# Altium footprint library BGA-24 (8x6).PcbLib: 1 footprints
Each footprint in its own frame and in the unit in brackets; x right, y up, seen from the top. Pads: shape width x height; smd on the part's side, far side on the other; paste and mask are expansions set on the pad; w line width, h text height; cw(c..) or ccw(c..) is an arc to the next point about the centre after c.
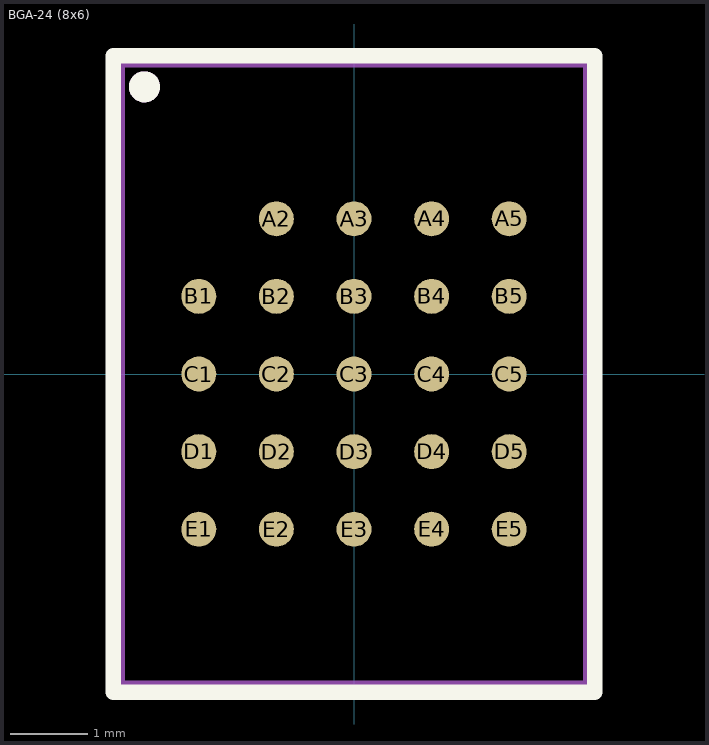
[diagram p0: the footprint, top view; thin cyan lines are the x and y axes]

## BGA-24 (8x6) [mm]
pads (24):
  round 0.45 smd mask+0.005: A2(-1,2) A3(0,2) A4(1,2) A5(2,2) B1(-2,1) B2(-1,1) B3(0,1) B4(1,1) B5(2,1) C1(-2,0) C2(-1,0) C3(0,0) C4(1,0) C5(2,0) D1(-2,-1) D2(-1,-1) D3(0,-1) D4(1,-1) D5(2,-1) E1(-2,-2) E2(-1,-2) E3(0,-2) E4(1,-2) E5(2,-2)
Top Overlay:
  circle w0.2: c-2.7,3.7 r0.1
  lines w0.2: -3.1,-4.1 3.1,-4.1 3.1,4.1 -3.1,4.1 -3.1,-4.1
Top Assembly:
  circle w0.2: c-2.7,3.7 r0.1
  lines w0.1: -3,-4 3,-4 3,4 -3,4 -3,-4
  text "'.Designator'" at -2.25,2.775 h0.7
3D body "BGA-24.stp": height 1.2, standoff 0, extent -3,-4 3,4